# Altium integrated library FDN338P.IntLib: 1 symbol
Pins are listed as number, name and electrical type; pins without a type are passive.

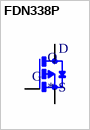
[diagram p0: symbol FDN338P]

## FDN338P
designator Q
P-Channel 20V 1.6A _Ta_ 500mW _Ta_ Surface Mount SuperSOT-3; MP: FDN338P; MF: ON Semiconductor; Value: *; SnapEDA_Link: https://www.snapeda.com/parts/FDN338P/ON%20Semiconductor/view-part/1741166/?ref=snap; Availability: Unavailable; Price: None; Package: SC-59 ON Semiconductor
footprint SSOT-3
pins: 1 G, 2 S, 3 D